# Altium footprint library TUSB320IRWBR.PcbLib: 1 footprints
Each footprint in its own frame and in the unit in brackets; x right, y up, seen from the top. Pads: shape width x height; smd on the part's side, far side on the other; paste and mask are expansions set on the pad; w line width, h text height; cw(c..) or ccw(c..) is an arc to the next point about the centre after c.
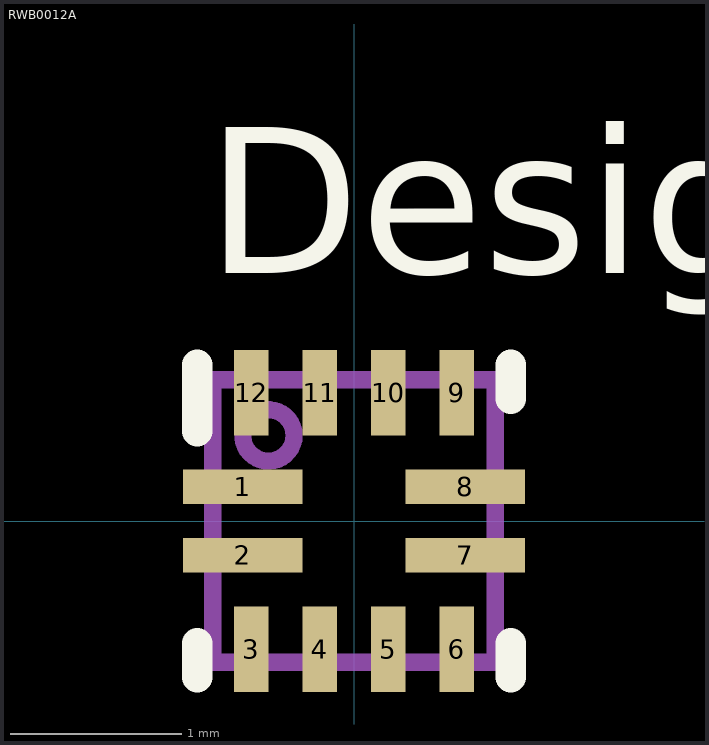
[diagram p0: the footprint, top view; thin cyan lines are the x and y axes]

## RWB0012A [mm]
pads (12):
  rect 0.7x0.2 smd paste-0.337 mask+0.051: 1(-0.65,0.2) 2(-0.65,-0.2) 7(0.65,-0.2) 8(0.65,0.2)
  rect 0.2x0.5 smd paste+0 mask+0.051: 3(-0.6,-0.75) 4(-0.2,-0.75) 5(0.2,-0.75) 6(0.6,-0.75) 9(0.6,0.75) 10(0.2,0.75) 11(-0.2,0.75) 12(-0.6,0.75)
Top Overlay:
  lines w0.178: -0.916,-0.914 -0.916,-0.714 ; -0.916,0.525 -0.916,0.914 ; 0.916,-0.914 0.916,-0.714 ; 0.916,0.714 0.916,0.914
  text "Designator9" at -0.864,1.448 h1.27
Top Paste:
  region: -0.984,0.146 -0.985,0.157 -0.985,0.243 -0.984,0.254 -0.981,0.265 -0.975,0.275 -0.968,0.283 -0.96,0.29 -0.95,0.296 -0.939,0.299 -0.928,0.3 -0.372,0.3 -0.361,0.299 -0.35,0.296 -0.34,0.29 -0.332,0.283 -0.325,0.275 -0.319,0.265 -0.316,0.254 -0.315,0.243 -0.315,0.157 -0.316,0.146 -0.319,0.135 -0.325,0.125 -0.332,0.117 -0.34,0.11 -0.35,0.104 -0.361,0.101 -0.372,0.1 -0.928,0.1 -0.939,0.101 -0.95,0.104 -0.96,0.11 -0.968,0.117 -0.975,0.125 -0.981,0.135
  region: -0.984,-0.254 -0.985,-0.243 -0.985,-0.157 -0.984,-0.146 -0.981,-0.135 -0.975,-0.125 -0.968,-0.117 -0.96,-0.11 -0.95,-0.104 -0.939,-0.101 -0.928,-0.1 -0.372,-0.1 -0.361,-0.101 -0.35,-0.104 -0.34,-0.11 -0.332,-0.117 -0.325,-0.125 -0.319,-0.135 -0.316,-0.146 -0.315,-0.157 -0.315,-0.243 -0.316,-0.254 -0.319,-0.265 -0.325,-0.275 -0.332,-0.283 -0.34,-0.29 -0.35,-0.296 -0.361,-0.299 -0.372,-0.3 -0.928,-0.3 -0.939,-0.299 -0.95,-0.296 -0.96,-0.29 -0.968,-0.283 -0.975,-0.275 -0.981,-0.265
  region: 0.984,-0.146 0.985,-0.157 0.985,-0.243 0.984,-0.254 0.981,-0.265 0.975,-0.275 0.968,-0.283 0.96,-0.29 0.95,-0.296 0.939,-0.299 0.928,-0.3 0.372,-0.3 0.361,-0.299 0.35,-0.296 0.34,-0.29 0.332,-0.283 0.325,-0.275 0.319,-0.265 0.316,-0.254 0.315,-0.243 0.315,-0.157 0.316,-0.146 0.319,-0.135 0.325,-0.125 0.332,-0.117 0.34,-0.11 0.35,-0.104 0.361,-0.101 0.372,-0.1 0.928,-0.1 0.939,-0.101 0.95,-0.104 0.96,-0.11 0.968,-0.117 0.975,-0.125 0.981,-0.135
  region: 0.984,0.254 0.985,0.243 0.985,0.157 0.984,0.146 0.981,0.135 0.975,0.125 0.968,0.117 0.96,0.11 0.95,0.104 0.939,0.101 0.928,0.1 0.372,0.1 0.361,0.101 0.35,0.104 0.34,0.11 0.332,0.117 0.325,0.125 0.319,0.135 0.316,0.146 0.315,0.157 0.315,0.243 0.316,0.254 0.319,0.265 0.325,0.275 0.332,0.283 0.34,0.29 0.35,0.296 0.361,0.299 0.372,0.3 0.928,0.3 0.939,0.299 0.95,0.296 0.96,0.29 0.968,0.283 0.975,0.275 0.981,0.265
Mechanical 13:
  circle w0.1: c-0.5,0.5 r0.15
  lines w0.1: -0.825,-0.825 0.825,-0.825 0.825,0.825 -0.825,0.825 -0.825,-0.825
  text ".Designator" at -0.4,-0.735 h1.27
3D body "RWB0012A.stp": height 0.4, standoff 0, extent -0.8,-0.8 0.8,0.8
3D body: height 0.25, standoff 0, extent 0,0 0.254,0.254